# Altium integrated library FDS6681Z.IntLib: 1 symbol
Pins are listed as number, name and electrical type; pins without a type are passive.

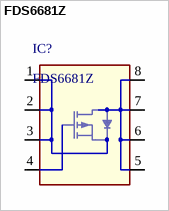
[diagram p0: symbol FDS6681Z]

## FDS6681Z
designator IC?
ID: FDS6681Z; PRICE: 1.84000; BUY_LINK: http://www.digikey.com/product-detail/en/FDS6681Z/FDS6681ZCT-ND/1626210; PDF: http://www.fairchildsemi.com/ds/FD/FDS6681Z.pdf
footprint SO8
pins: 1 S, 2 S, 3 S, 4 G, 5 D, 6 D, 7 D, 8 D